# Altium integrated library diodes_incorporated.IntLib: 3 symbols
Pins are listed as number, name and electrical type; pins without a type are passive.

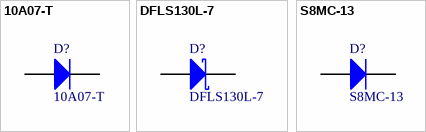
[diagram p0: symbols 10A07-T to S8MC-13]

## 10A07-T
designator D?
Rectifier 10A 1000V
footprint 10A07-T
pins: 1 A, 2 C

## DFLS130L-7
designator D?
Schottky Diode 1A 30V
footprint DFLS130L-7
pins: 1 A, 2 K

## S8MC-13
designator D?
Rectifier 8A 1000V
footprint S8MC-13
pins: 1 A, 2 C